# EAGLE library part IMT17-7 (library doides-transistor)
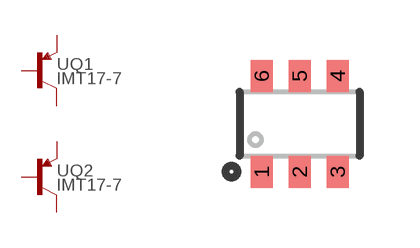
[diagram p1: symbol with the pads of SOT26; footprint SOT26]

Designator prefix -; gates Q1=PNP Q2=PNP

## IMT17-7  [SOT26]
1  Q1:E  pas
2  Q1:B  pas
3  Q2:C  pas
4  Q2:E  pas
5  Q2:B  pas
6  Q1:C  pas

## Footprint SOT26 (pad centres in mm)
smd 0.55 x 0.8: 1 -0.95,-1.2; 2 0,-1.2; 3 0.95,-1.2; 4 0.95,1.2; 5 0,1.2; 6 -0.95,1.2